# Altium schematic symbol library Transistors_SMD.SchLib: 16 symbols
Pins are listed as number, name and electrical type; pins without a type are passive.

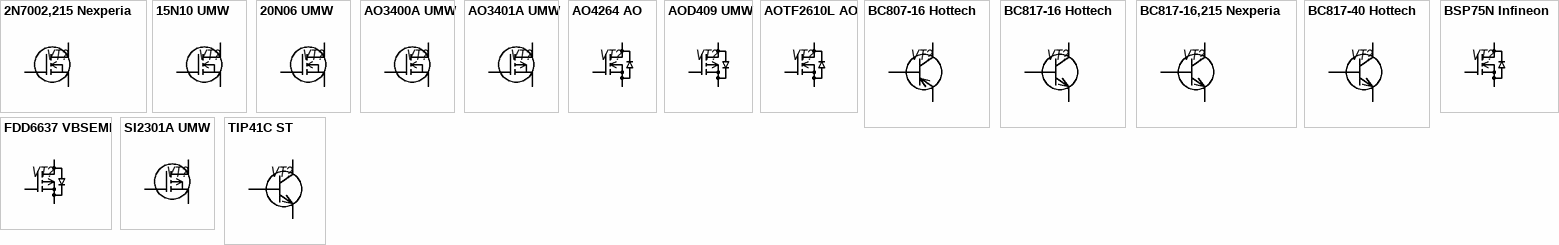
[diagram p0: symbols 2N7002,215 Nexperia to TIP41C ST]

## 2N7002,215 Nexperia
designator VT?  (value not drawn)
Partnumber: =Identifier
footprint SOT23-3
pins: 1, 2, 3

## 15N10 UMW
designator VT?  (value not drawn)
Partnumber: =Identifier
footprint TO-252 (DPAK)
pins: 1 Gate, 2 Drain, 3 Source

## 20N06 UMW
designator VT?  (value not drawn)
Partnumber: =Identifier
footprint TO-252 (DPAK)
pins: 1 Gate, 2 Drain, 3 Source

## AO3400A UMW
designator VT?  (value not drawn)
Partnumber: =Identifier
footprint SOT23-3-H
pins: 1, 2, 3

## AO3401A UMW
designator VT?  (value not drawn)
Partnumber: =Identifier
footprint SOT23-3
pins: 1, 2, 3

## AO4264 AO
designator VT?  (value not drawn)
Partnumber: =Identifier
footprint SOIC-8-AO4264
pins: D, G, S

## AOD409 UMW
designator VT?  (value not drawn)
Транзистор P-MOSFET 60В 26A 60Вт; Partnumber: =Identifier
footprint TO-252 (DPAK)
pins: 1 G, 2 D, 3 S

## AOTF2610L AO
designator VT?  (value not drawn)
footprint TO-220-H
footprint TO-220-H-VAR2
pins: 1 G, 2 D, 3 S

## BC807-16 Hottech
designator VT?  (value not drawn)
Partnumber: =Identifier
footprint SOT23-3
pins: 1, 2, 3

## BC817-16 Hottech
designator VT?  (value not drawn)
Partnumber: =Identifier
footprint SOT23-3
pins: 1, 2, 3

## BC817-16,215 Nexperia
designator VT?  (value not drawn)
Partnumber: =Identifier
footprint SOT23-3
pins: 1, 2, 3

## BC817-40 Hottech
designator VT?  (value not drawn)
Partnumber: =Identifier
footprint SOT23-3
pins: 1, 2, 3

## BSP75N Infineon
designator VT?  (value not drawn)
Интеллектуальный ключ, HITFET, Low-Side [SOT-223]; Partnumber: =Identifier
footprint SOT-223-V2
pins: 1 G, 2 D, 3 S

## FDD6637 VBSEMI
designator VT?  (value not drawn)
Partnumber: =Identifier
footprint TO-252 (DPAK)
pins: 1 G, 2 D, 3 S

## SI2301A UMW
designator VT?  (value not drawn)
Partnumber: =Identifier
footprint SOT23-3
pins: 1, 2, 3

## TIP41C ST
designator VT?  (value not drawn)
Partnumber: =Identifier
footprint TO-220
pins: 1 B, 2 C, 3 E